# Altium schematic symbol library ESD保护库.SCHLIB: 9 symbols
Pins are listed as number, name and electrical type; pins without a type are passive.

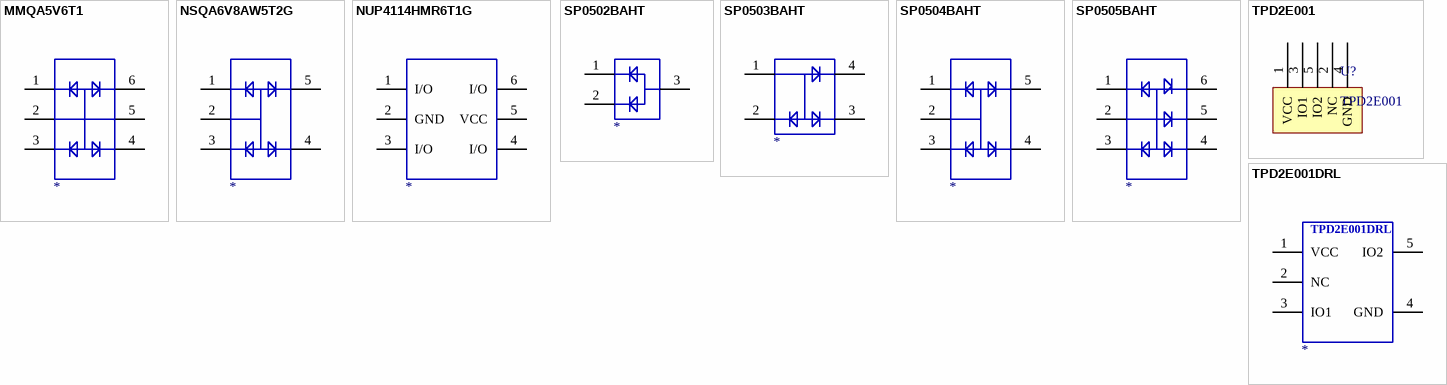
[diagram p0: symbols MMQA5V6T1 to TPD2E001DRL]

## MMQA5V6T1
designator ?
pins: 1 (oe), 2 (oe), 3 (oe), 4 (oe), 5 (oe), 6 (oe)

## NSQA6V8AW5T2G
designator ?
pins: 1 (oe), 2 (oe), 3 (oe), 4 (oe), 5 (oe)

## NUP4114HMR6T1G
designator ?
pins: 1 I/O (oe), 2 GND (oe), 3 I/O (oe), 4 I/O (oe), 5 VCC (oe), 6 I/O (oe)

## SP0502BAHT
designator ?
pins: 1 (oe), 2 (oe), 3 (oe)

## SP0503BAHT
designator ?
pins: 1 (oe), 2 (oe), 3 (oe), 4 (oe)

## SP0504BAHT
designator ?
pins: 1 (oe), 2 (oe), 3 (oe), 4 (oe), 5 (oe)

## SP0505BAHT
designator ?
pins: 1 (oe), 2 (oe), 3 (oe), 4 (oe), 5 (oe), 6 (oe)

## TPD2E001
designator U?
pins: 1 VCC, 2 NC, 3 IO1, 4 GND, 5 IO2

## TPD2E001DRL
designator ?
pins: 1 VCC (oe), 2 NC (oe), 3 IO1 (oe), 4 GND (oe), 5 IO2 (oe)